# Altium schematic symbol library HW_ADHERENT_NFC_R1_L1.SchLib: 515 symbols (part 6 of 8)
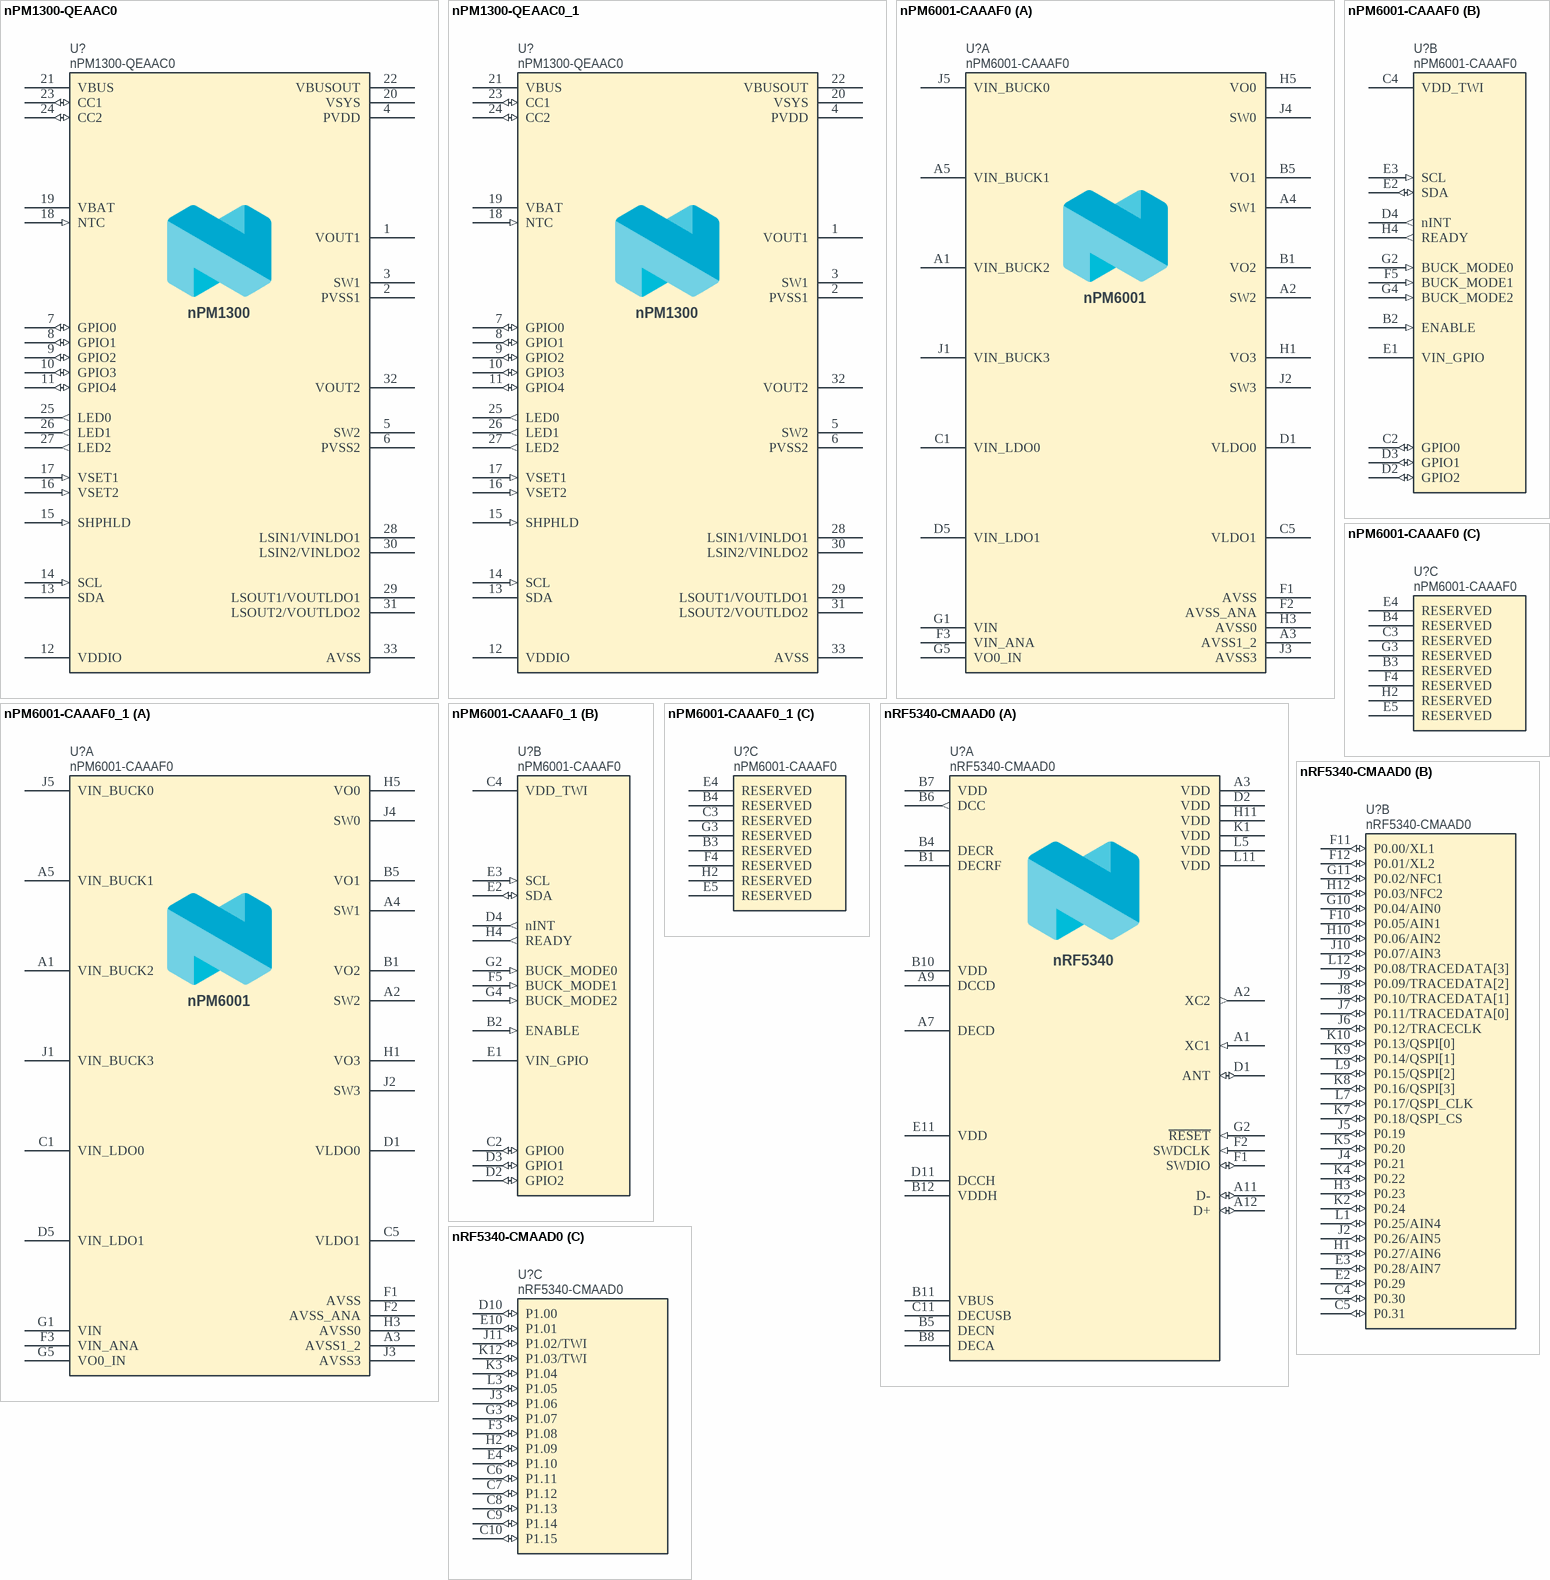
[diagram p20: symbols nPM1300-QEAAC0 to nRF5340-CMAAD0]

## nPM1300-QEAAC0
designator U?
Li-Ion/Li-Polymer USB-C battery charger with high efficiency buck regulators, LDOs or load switches, LED drivers, TWI and VBUSOUT; Manufacturer: Nordic Semiconductor; Part number NEMS: 102000306; Component Status: Active; Pad Count: 33; Note: Production version; Artikkelnr Noca: N.A.; Part Number: nPM1300-QEAAC0; Component Class: Nordic_Devices; Author: eisk; Manufacturer Part Number: nPM1300-QEAAC0; ComponentLink1URL: N.A.; ComponentLink1Description: Datasheet; ComponentLink2URL: N.A.; ComponentLink2Description: Supplier link; HelpURL: N.A.; LatestRevisionDate: 2023-08-16; Published: 2023-08-16; Footprint Doc: QFN-32; Value: nPM1300-QEAAC0; Supplier 1: Nordic Semiconductor; Supplier Part Number 1: nPM1300-QEAAC0; Supplier 2: N.A.; Supplier Part Number 2: N.A.; Part number IPS: N.A.; Part number Norautron: N.A.; PartId: 102000306
footprint Nordic_QFN50P500X500X90-33N
pins: 1 VOUT1 (power), 2 PVSS1 (power), 3 SW1 (power), 4 PVDD (power), 5 SW2 (power), 6 PVSS2 (power), 7 GPIO0 (io), 8 GPIO1 (io), 9 GPIO2 (io), 10 GPIO3 (io), 11 GPIO4 (io), 12 VDDIO (power), 13 SDA (oc), 14 SCL (in), 15 SHPHLD (in), 16 VSET2 (in), 17 VSET1 (in), 18 NTC (in), 19 VBAT, 20 VSYS (power), 21 VBUS (power), 22 VBUSOUT (power), 23 CC1 (io), 24 CC2 (io), 25 LED0 (out), 26 LED1 (out), 27 LED2 (out), 28 LSIN1/VINLDO1 (power), 29 LSOUT1/VOUTLDO1 (power), 30 LSIN2/VINLDO2 (power), 31 LSOUT2/VOUTLDO2 (power), 32 VOUT2 (power), 33 AVSS (power)
text: nPM1300

## nPM1300-QEAAC0_1
designator U?, comment nPM1300-QEAAC0
Li-Ion/Li-Polymer USB-C battery charger with high efficiency buck regulators, LDOs or load switches, LED drivers, TWI and VBUSOUT; Manufacturer: Nordic Semiconductor; Part number NEMS: 102000306; Component Status: Active; Pad Count: 33; Note: Production version; Artikkelnr Noca: N.A.; Part Number: nPM1300-QEAAC0; Component Class: Nordic_Devices; Author: eisk; Manufacturer Part Number: nPM1300-QEAAC0; ComponentLink1URL: N.A.; ComponentLink1Description: Datasheet; ComponentLink2URL: N.A.; ComponentLink2Description: Supplier link; HelpURL: N.A.; LatestRevisionDate: 2023-08-16; Published: 2023-08-16; Footprint Doc: QFN-32; Value: nPM1300-QEAAC0; Supplier 1: Nordic Semiconductor; Supplier Part Number 1: nPM1300-QEAAC0; Supplier 2: N.A.; Supplier Part Number 2: N.A.; Part number IPS: N.A.; Part number Norautron: N.A.; PartId: 102000306
footprint Nordic_QFN50P500X500X90-33N
pins: 1 VOUT1 (power), 2 PVSS1 (power), 3 SW1 (power), 4 PVDD (power), 5 SW2 (power), 6 PVSS2 (power), 7 GPIO0 (io), 8 GPIO1 (io), 9 GPIO2 (io), 10 GPIO3 (io), 11 GPIO4 (io), 12 VDDIO (power), 13 SDA (oc), 14 SCL (in), 15 SHPHLD (in), 16 VSET2 (in), 17 VSET1 (in), 18 NTC (in), 19 VBAT, 20 VSYS (power), 21 VBUS (power), 22 VBUSOUT (power), 23 CC1 (io), 24 CC2 (io), 25 LED0 (out), 26 LED1 (out), 27 LED2 (out), 28 LSIN1/VINLDO1 (power), 29 LSOUT1/VOUTLDO1 (power), 30 LSIN2/VINLDO2 (power), 31 LSOUT2/VOUTLDO2 (power), 32 VOUT2 (power), 33 AVSS (power)
text: nPM1300

## nPM6001-CAAAF0
designator U?
Low-power and high efficiency PMIC; Manufacturer: Nordic Semiconductor; Part number NEMS: 102000358; Component Status: Active; Pad Count: 45; Note: N.A.; Part Number: nPM6001-CAAAF0; Component Class: Nordic_Devices; Author: getr; Manufacturer Part Number: nPM6001-CAAAF0; ComponentLink1URL: N.A.; ComponentLink1Description: Datasheet; ComponentLink2URL: N.A.; ComponentLink2Description: Supplier link; HelpURL: N.A.; LatestRevisionDate: 2024-08-09; Published: 2024-08-09; Footprint Doc: WLCSP-45; Value: nPM6001-CAAAF0; Supplier 1: Nordic Semiconductor; Supplier Part Number 1: nPM6001-CAAAF0; Supplier 2: N.A.; Supplier Part Number 2: N.A.; Artikkelnr Noca: N.A.; Part number IPS: N.A.; Part number Norautron: N.A.; PartId: 102000358
footprint BGA45C40P5X9_217X364X49
part A pins: A1 VIN_BUCK2 (power), A2 SW2 (power), A3 AVSS1_2 (power), A4 SW1 (power), A5 VIN_BUCK1 (power), B1 VO2 (power), B5 VO1 (power), C1 VIN_LDO0 (power), C5 VLDO1 (power), D1 VLDO0 (power), D5 VIN_LDO1 (power), F1 AVSS (power), F2 AVSS_ANA (power), F3 VIN_ANA (power), G1 VIN (power), G5 VO0_IN (power), H1 VO3 (power), H3 AVSS0 (power), H5 VO0 (power), J1 VIN_BUCK3 (power), J2 SW3 (power), J3 AVSS3 (power), J4 SW0 (power), J5 VIN_BUCK0 (power)
part B pins: B2 ENABLE (in), C2 GPIO0 (io), C4 VDD_TWI (power), D2 GPIO2 (io), D3 GPIO1 (io), D4 nINT (out), E1 VIN_GPIO (power), E2 SDA (io), E3 SCL (in), F5 BUCK_MODE1 (in), G2 BUCK_MODE0 (in), G4 BUCK_MODE2 (in), H4 READY (out)
part C pins: B3 RESERVED, B4 RESERVED, C3 RESERVED, E4 RESERVED, E5 RESERVED, F4 RESERVED, G3 RESERVED, H2 RESERVED
part A text: nPM6001

## nPM6001-CAAAF0_1
designator U?, comment nPM6001-CAAAF0
Low-power and high efficiency PMIC; Manufacturer: Nordic Semiconductor; Part number NEMS: 102000358; Component Status: Active; Pad Count: 45; Note: N.A.; Part Number: nPM6001-CAAAF0; Component Class: Nordic_Devices; Author: getr; Manufacturer Part Number: nPM6001-CAAAF0; ComponentLink1URL: N.A.; ComponentLink1Description: Datasheet; ComponentLink2URL: N.A.; ComponentLink2Description: Supplier link; HelpURL: N.A.; LatestRevisionDate: 2024-08-09; Published: 2024-08-09; Footprint Doc: WLCSP-45; Value: nPM6001-CAAAF0; Supplier 1: Nordic Semiconductor; Supplier Part Number 1: nPM6001-CAAAF0; Supplier 2: N.A.; Supplier Part Number 2: N.A.; Artikkelnr Noca: N.A.; Part number IPS: N.A.; Part number Norautron: N.A.; PartId: 102000358
footprint BGA45C40P5X9_217X364X49
part A pins: A1 VIN_BUCK2 (power), A2 SW2 (power), A3 AVSS1_2 (power), A4 SW1 (power), A5 VIN_BUCK1 (power), B1 VO2 (power), B5 VO1 (power), C1 VIN_LDO0 (power), C5 VLDO1 (power), D1 VLDO0 (power), D5 VIN_LDO1 (power), F1 AVSS (power), F2 AVSS_ANA (power), F3 VIN_ANA (power), G1 VIN (power), G5 VO0_IN (power), H1 VO3 (power), H3 AVSS0 (power), H5 VO0 (power), J1 VIN_BUCK3 (power), J2 SW3 (power), J3 AVSS3 (power), J4 SW0 (power), J5 VIN_BUCK0 (power)
part B pins: B2 ENABLE (in), C2 GPIO0 (io), C4 VDD_TWI (power), D2 GPIO2 (io), D3 GPIO1 (io), D4 nINT (out), E1 VIN_GPIO (power), E2 SDA (io), E3 SCL (in), F5 BUCK_MODE1 (in), G2 BUCK_MODE0 (in), G4 BUCK_MODE2 (in), H4 READY (out)
part C pins: B3 RESERVED, B4 RESERVED, C3 RESERVED, E4 RESERVED, E5 RESERVED, F4 RESERVED, G3 RESERVED, H2 RESERVED
part A text: nPM6001

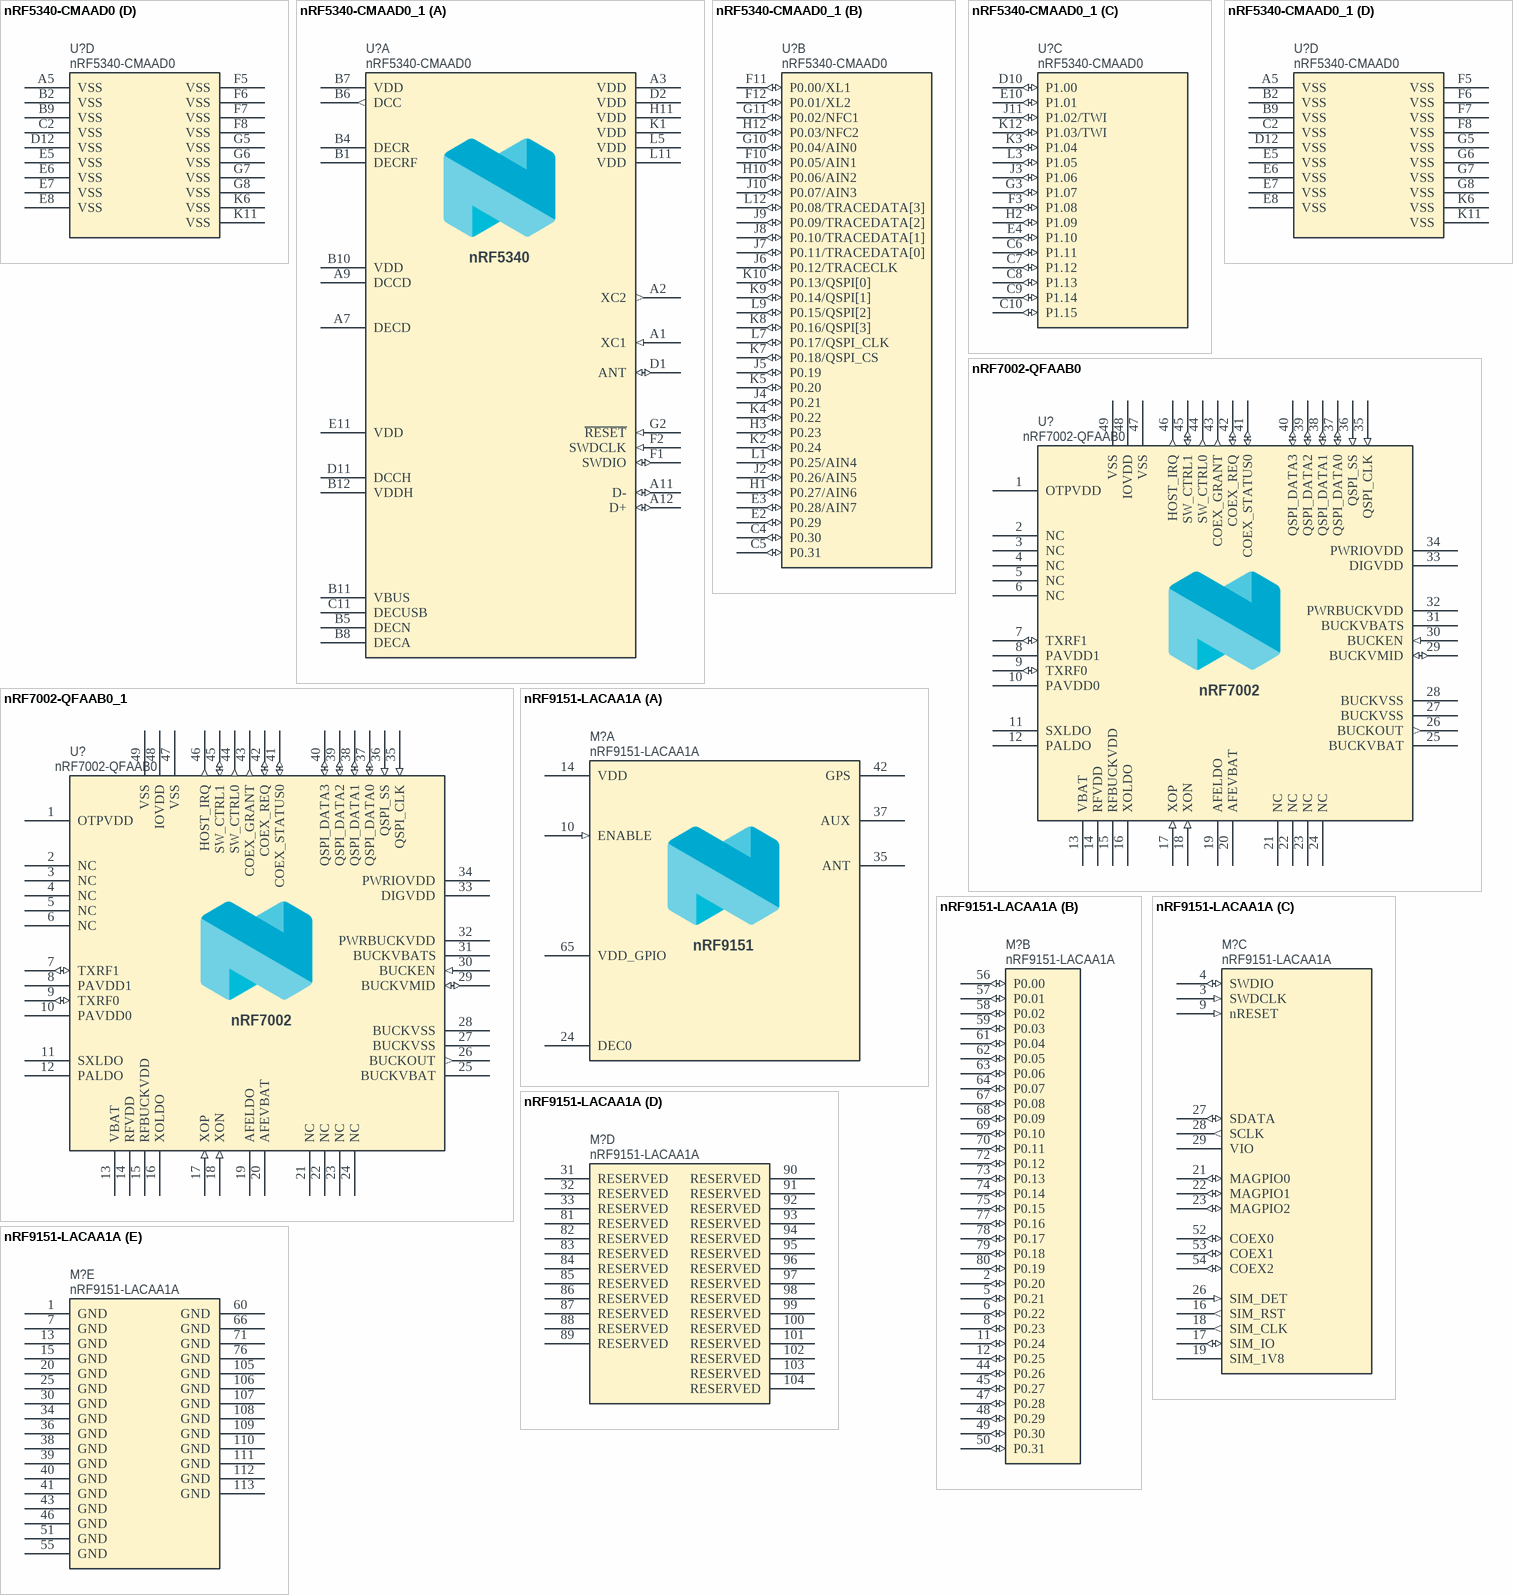
[diagram p10: symbols nRF5340-CMAAD0 to nRF9151-LACAA1A]

## nRF5340-CMAAD0
designator U?
Multi-protocol Bluetooth Low Energy, IEEE 802.15.4, ANT and 2.4GHz proprietary system-on-chip; Manufacturer: Nordic Semiconductor; Part number NEMS: 102000337; Pad Count: 95; Note: N.A.; Component Status: Active; Part Number: nRF5340-CMAAD0; Footprint Doc: WLCSP-95; Value: nRF5340-CMAAD0; Component Class: Nordic_Devices; Author: rubr; PartId: 102000337; Manufacturer Part Number: nRF5340-CMAAD0; ComponentLink1URL: N.A.; ComponentLink1Description: Datasheet; ComponentLink2URL: N.A.; ComponentLink2Description: Supplier link; HelpURL: N.A.; LatestRevisionDate: 2024-06-07; Published: 2024-06-07; Supplier 1: Nordic Semiconductor; Supplier Part Number 1: nRF5340-CMAAD0; Supplier 2: N.A.; Supplier Part Number 2: N.A.; Artikkelnr Noca: N.A.; Part number IPS: N.A.; Part number Norautron: N.A.
footprint BGA95C35P12X11_439X399X49
part A pins: A1 XC1 (in), A2 XC2 (out), A3 VDD (power), A7 DECD (power), A9 DCCD (power), A11 D- (io), A12 D+ (io), B1 DECRF (power), B4 DECR (power), B5 DECN (power), B6 DCC (out), B7 VDD (power), B8 DECA (power), B10 VDD (power), B11 VBUS (power), B12 VDDH (power), C11 DECUSB (power), D1 ANT (io), D2 VDD (power), D11 DCCH (power), E11 VDD (power), F1 SWDIO (io), F2 SWDCLK (in), G2 ~{RESET} (in), H11 VDD (power), K1 VDD (power), L5 VDD (power), L11 VDD (power)
part B pins: C4 P0.30 (io), C5 P0.31 (io), E2 P0.29 (io), E3 P0.28/AIN7 (io), F10 P0.05/AIN1 (io), F11 P0.00/XL1 (io), F12 P0.01/XL2 (io), G10 P0.04/AIN0 (io), G11 P0.02/NFC1 (io), H1 P0.27/AIN6 (io), H3 P0.23 (io), H10 P0.06/AIN2 (io), H12 P0.03/NFC2 (io), J2 P0.26/AIN5 (io), J4 P0.21 (io), J5 P0.19 (io), J6 P0.12/TRACECLK (io), J7 P0.11/TRACEDATA[0] (io), J8 P0.10/TRACEDATA[1] (io), J9 P0.09/TRACEDATA[2] (io), J10 P0.07/AIN3 (io), K2 P0.24 (io), K4 P0.22 (io), K5 P0.20 (io), K7 P0.18/QSPI_CS (io), K8 P0.16/QSPI[3] (io), K9 P0.14/QSPI[1] (io), K10 P0.13/QSPI[0] (io), L1 P0.25/AIN4 (io), L7 P0.17/QSPI_CLK (io), L9 P0.15/QSPI[2] (io), L12 P0.08/TRACEDATA[3] (io)
part C pins: C6 P1.11 (io), C7 P1.12 (io), C8 P1.13 (io), C9 P1.14 (io), C10 P1.15 (io), D10 P1.00 (io), E4 P1.10 (io), E10 P1.01 (io), F3 P1.08 (io), G3 P1.07 (io), H2 P1.09 (io), J3 P1.06 (io), J11 P1.02/TWI (io), K3 P1.04 (io), K12 P1.03/TWI (io), L3 P1.05 (io)
part D pins: A5 VSS (power), B2 VSS (power), B9 VSS (power), C2 VSS (power), D12 VSS (power), E5 VSS (power), E6 VSS (power), E7 VSS (power), E8 VSS (power), F5 VSS (power), F6 VSS (power), F7 VSS (power), F8 VSS (power), G5 VSS (power), G6 VSS (power), G7 VSS (power), G8 VSS (power), K6 VSS (power), K11 VSS (power)
part A text: nRF5340

## nRF5340-CMAAD0_1
designator U?, comment nRF5340-CMAAD0
Multi-protocol Bluetooth Low Energy, IEEE 802.15.4, ANT and 2.4GHz proprietary system-on-chip; Manufacturer: Nordic Semiconductor; Part number NEMS: 102000337; Pad Count: 95; Note: N.A.; Component Status: Active; Part Number: nRF5340-CMAAD0; Footprint Doc: WLCSP-95; Value: nRF5340-CMAAD0; Component Class: Nordic_Devices; Author: rubr; PartId: 102000337; Manufacturer Part Number: nRF5340-CMAAD0; ComponentLink1URL: N.A.; ComponentLink1Description: Datasheet; ComponentLink2URL: N.A.; ComponentLink2Description: Supplier link; HelpURL: N.A.; LatestRevisionDate: 2024-06-07; Published: 2024-06-07; Supplier 1: Nordic Semiconductor; Supplier Part Number 1: nRF5340-CMAAD0; Supplier 2: N.A.; Supplier Part Number 2: N.A.; Artikkelnr Noca: N.A.; Part number IPS: N.A.; Part number Norautron: N.A.
footprint BGA95C35P12X11_439X399X49
part A pins: A1 XC1 (in), A2 XC2 (out), A3 VDD (power), A7 DECD (power), A9 DCCD (power), A11 D- (io), A12 D+ (io), B1 DECRF (power), B4 DECR (power), B5 DECN (power), B6 DCC (out), B7 VDD (power), B8 DECA (power), B10 VDD (power), B11 VBUS (power), B12 VDDH (power), C11 DECUSB (power), D1 ANT (io), D2 VDD (power), D11 DCCH (power), E11 VDD (power), F1 SWDIO (io), F2 SWDCLK (in), G2 ~{RESET} (in), H11 VDD (power), K1 VDD (power), L5 VDD (power), L11 VDD (power)
part B pins: C4 P0.30 (io), C5 P0.31 (io), E2 P0.29 (io), E3 P0.28/AIN7 (io), F10 P0.05/AIN1 (io), F11 P0.00/XL1 (io), F12 P0.01/XL2 (io), G10 P0.04/AIN0 (io), G11 P0.02/NFC1 (io), H1 P0.27/AIN6 (io), H3 P0.23 (io), H10 P0.06/AIN2 (io), H12 P0.03/NFC2 (io), J2 P0.26/AIN5 (io), J4 P0.21 (io), J5 P0.19 (io), J6 P0.12/TRACECLK (io), J7 P0.11/TRACEDATA[0] (io), J8 P0.10/TRACEDATA[1] (io), J9 P0.09/TRACEDATA[2] (io), J10 P0.07/AIN3 (io), K2 P0.24 (io), K4 P0.22 (io), K5 P0.20 (io), K7 P0.18/QSPI_CS (io), K8 P0.16/QSPI[3] (io), K9 P0.14/QSPI[1] (io), K10 P0.13/QSPI[0] (io), L1 P0.25/AIN4 (io), L7 P0.17/QSPI_CLK (io), L9 P0.15/QSPI[2] (io), L12 P0.08/TRACEDATA[3] (io)
part C pins: C6 P1.11 (io), C7 P1.12 (io), C8 P1.13 (io), C9 P1.14 (io), C10 P1.15 (io), D10 P1.00 (io), E4 P1.10 (io), E10 P1.01 (io), F3 P1.08 (io), G3 P1.07 (io), H2 P1.09 (io), J3 P1.06 (io), J11 P1.02/TWI (io), K3 P1.04 (io), K12 P1.03/TWI (io), L3 P1.05 (io)
part D pins: A5 VSS (power), B2 VSS (power), B9 VSS (power), C2 VSS (power), D12 VSS (power), E5 VSS (power), E6 VSS (power), E7 VSS (power), E8 VSS (power), F5 VSS (power), F6 VSS (power), F7 VSS (power), F8 VSS (power), G5 VSS (power), G6 VSS (power), G7 VSS (power), G8 VSS (power), K6 VSS (power), K11 VSS (power)
part A text: nRF5340

## nRF7002-QFAAB0
designator U?
Wi-fi Dual Band Companion chip; Manufacturer: Nordic Semiconductor; Part number NEMS: 102000276; Pad Count: 49; Note: N.A.; Component Status: Active; Part Number: nRF7002-QFAAB0; Component Class: Nordic_Devices; Author: hany; Manufacturer Part Number: nRF7002-QFAAB0; ComponentLink1URL: N.A.; ComponentLink1Description: Datasheet; ComponentLink2URL: N.A.; ComponentLink2Description: Supplier link; HelpURL: N.A.; Footprint Doc: QFN-48; LatestRevisionDate: 2023-01-11; Published: 2023-01-11; Value: nRF7002-QFAA; Supplier 1: Nordic Semiconductor; Supplier Part Number 1: nRF7002-QFAAB0; Supplier 2: N.A.; Supplier Part Number 2: N.A.; Artikkelnr Noca: N.A.; Part number IPS: N.A.; Part number Norautron: N.A.; PartId: 102000276
footprint QFN40P600X600X60-48N
pins: 1 OTPVDD (power) "OTP write mode supply,  (2.25-2.75V)", 2 NC, 3 NC, 4 NC, 5 NC, 6 NC, 7 TXRF1 (io) "RF INOUT ,", 8 PAVDD1 (power) "Supply ,  (3.3V)", 9 TXRF0 (io) "RF INOUT ,", 10 PAVDD0 (power) "Supply ,  (3.3V)", 11 SXLDO (power) "Supply ,  (1.2V)", 12 PALDO (power) "Supply ,  (3.3V)", 13 VBAT (power) "Supply ,  (2.5-4.5V)", 14 RFVDD (power) "Supply ,  (1.8V)", 15 RFBUCKVDD (power) "Supply ,  (1.5V)", 16 XOLDO (power) "Supply ,  (1.2V)", 17 XOP (in) "40MHz crystal ,", 18 XON (in) "40MHz crystal ,", 19 AFELDO (power) "Supply ,  (1.8V)", 20 AFEVBAT (power) "Supply ,  (2.5-4.5V)", 21 NC, 22 NC, 23 NC, 24 NC, 25 BUCKVBAT (power) "Supply ,  (2.5-4.5V)", 26 BUCKOUT (out) "DCDC output", 27 BUCKVSS (power) "DCDC GND", 28 BUCKVSS (power) "DCDC GND", 29 BUCKVMID (io) "Voltage reference decoupling pin ,", 30 BUCKEN (in) "PWR IP enable pin ,", 31 BUCKVBATS (power) "Supply ,  (2.5-4.5V)", 32 PWRBUCKVDD (power) "Supply ,  (1.5V)", 33 DIGVDD (power) "Supply ,  (1.1V)", 34 PWRIOVDD (power) "internal IO supply, may be used for OTP read,  (1.8-3.3 V)", 35 QSPI_CLK (in) "QSPI Clock", 36 QSPI_SS (in) "QSPI  Slave select", 37 QSPI_DATA0 (io) "QSPI data 0/MOSI", 38 QSPI_DATA1 (io) "QSPI data 1/MISO", 39 QSPI_DATA2 (io) "QSPI data 2/NC", 40 QSPI_DATA3 (io) "QSPI data 3/NC", 41 COEX_STATUS0 (io) "Coex interface, DIGMON1 (O) / GPIO1 (O)", 42 COEX_REQ (io) "Coex interface, DIGMON0 (O) / GPIO0 (O)", 43 COEX_GRANT (out) "Coex interface, GPIO2 (O)", 44 SW_CTRL0 (out) "external switch control , GPIO3 (O)", 45 SW_CTRL1 (io) "external switch control , GPIO4 (O) / BT_COEX_STATUS1 (I)", 46 HOST_IRQ (out) "Host processor interrupt request , GPIO5 (O)", 47 VSS "Connect to GND", 48 IOVDD (power) "IO supply ,  (1.8-3.3 V)", 49 VSS (power) "Center Pad"
text: nRF7002

## nRF7002-QFAAB0_1
designator U?, comment nRF7002-QFAAB0
Wi-fi Dual Band Companion chip; Manufacturer: Nordic Semiconductor; Part number NEMS: 102000276; Pad Count: 49; Note: N.A.; Component Status: Active; Part Number: nRF7002-QFAAB0; Component Class: Nordic_Devices; Author: hany; Manufacturer Part Number: nRF7002-QFAAB0; ComponentLink1URL: N.A.; ComponentLink1Description: Datasheet; ComponentLink2URL: N.A.; ComponentLink2Description: Supplier link; HelpURL: N.A.; Footprint Doc: QFN-48; LatestRevisionDate: 2023-01-11; Published: 2023-01-11; Value: nRF7002-QFAA; Supplier 1: Nordic Semiconductor; Supplier Part Number 1: nRF7002-QFAAB0; Supplier 2: N.A.; Supplier Part Number 2: N.A.; Artikkelnr Noca: N.A.; Part number IPS: N.A.; Part number Norautron: N.A.; PartId: 102000276
footprint QFN40P600X600X60-48N
pins: 1 OTPVDD (power) "OTP write mode supply,  (2.25-2.75V)", 2 NC, 3 NC, 4 NC, 5 NC, 6 NC, 7 TXRF1 (io) "RF INOUT ,", 8 PAVDD1 (power) "Supply ,  (3.3V)", 9 TXRF0 (io) "RF INOUT ,", 10 PAVDD0 (power) "Supply ,  (3.3V)", 11 SXLDO (power) "Supply ,  (1.2V)", 12 PALDO (power) "Supply ,  (3.3V)", 13 VBAT (power) "Supply ,  (2.5-4.5V)", 14 RFVDD (power) "Supply ,  (1.8V)", 15 RFBUCKVDD (power) "Supply ,  (1.5V)", 16 XOLDO (power) "Supply ,  (1.2V)", 17 XOP (in) "40MHz crystal ,", 18 XON (in) "40MHz crystal ,", 19 AFELDO (power) "Supply ,  (1.8V)", 20 AFEVBAT (power) "Supply ,  (2.5-4.5V)", 21 NC, 22 NC, 23 NC, 24 NC, 25 BUCKVBAT (power) "Supply ,  (2.5-4.5V)", 26 BUCKOUT (out) "DCDC output", 27 BUCKVSS (power) "DCDC GND", 28 BUCKVSS (power) "DCDC GND", 29 BUCKVMID (io) "Voltage reference decoupling pin ,", 30 BUCKEN (in) "PWR IP enable pin ,", 31 BUCKVBATS (power) "Supply ,  (2.5-4.5V)", 32 PWRBUCKVDD (power) "Supply ,  (1.5V)", 33 DIGVDD (power) "Supply ,  (1.1V)", 34 PWRIOVDD (power) "internal IO supply, may be used for OTP read,  (1.8-3.3 V)", 35 QSPI_CLK (in) "QSPI Clock", 36 QSPI_SS (in) "QSPI  Slave select", 37 QSPI_DATA0 (io) "QSPI data 0/MOSI", 38 QSPI_DATA1 (io) "QSPI data 1/MISO", 39 QSPI_DATA2 (io) "QSPI data 2/NC", 40 QSPI_DATA3 (io) "QSPI data 3/NC", 41 COEX_STATUS0 (io) "Coex interface, DIGMON1 (O) / GPIO1 (O)", 42 COEX_REQ (io) "Coex interface, DIGMON0 (O) / GPIO0 (O)", 43 COEX_GRANT (out) "Coex interface, GPIO2 (O)", 44 SW_CTRL0 (out) "external switch control , GPIO3 (O)", 45 SW_CTRL1 (io) "external switch control , GPIO4 (O) / BT_COEX_STATUS1 (I)", 46 HOST_IRQ (out) "Host processor interrupt request , GPIO5 (O)", 47 VSS "Connect to GND", 48 IOVDD (power) "IO supply ,  (1.8-3.3 V)", 49 VSS (power) "Center Pad"
text: nRF7002

## nRF9151-LACAA1A
designator M?
Low power System-in-Package with integrated LTE-M/NB-IoT modem and GPS; Manufacturer: Nordic Semiconductor; Part number NEMS: 102000407; Component Status: Active; Pad Count: 113; Note: N.A.; Part Number: nRF9151-LACAA1A; PartId: 102000407; Component Class: Nordic_Devices; Author: getr; Manufacturer Part Number: nRF9151-LACAA1A; ComponentLink1URL: N.A.; ComponentLink1Description: Datasheet; ComponentLink2URL: N.A.; ComponentLink2Description: Supplier link; HelpURL: N.A.; LatestRevisionDate: 2025-04-09; Published: 2025-04-09; Footprint Doc: LGA-113; Value: nRF9151-LACAA1A; Supplier 1: Nordic Semiconductor; Supplier Part Number 1: nRF9151-LACAA1A; Supplier 2: N.A.; Supplier Part Number 2: N.A.; Artikkelnr Noca: N.A.; Part number IPS: N.A.; Part number Norautron: N.A.
footprint LGA50P1210X1110X130-113N
part A pins: 10 ENABLE (in), 14 VDD (power), 24 DEC0, 35 ANT, 37 AUX, 42 GPS, 65 VDD_GPIO (power)
part B pins: 2 P0.20 (io), 5 P0.21 (io), 6 P0.22 (io), 8 P0.23 (io), 11 P0.24 (io), 12 P0.25 (io), 44 P0.26 (io), 45 P0.27 (io), 47 P0.28 (io), 48 P0.29 (io), 49 P0.30 (io), 50 P0.31 (io), 56 P0.00 (io), 57 P0.01 (io), 58 P0.02 (io), 59 P0.03 (io), 61 P0.04 (io), 62 P0.05 (io), 63 P0.06 (io), 64 P0.07 (io), 67 P0.08 (io), 68 P0.09 (io), 69 P0.10 (io), 70 P0.11 (io), 72 P0.12 (io), 73 P0.13 (io), 74 P0.14 (io), 75 P0.15 (io), 77 P0.16 (io), 78 P0.17 (io), 79 P0.18 (io), 80 P0.19 (io)
part C pins: 3 SWDCLK (in), 4 SWDIO (io), 9 nRESET (in), 16 SIM_RST (out), 17 SIM_IO (io), 18 SIM_CLK (out), 19 SIM_1V8 (power), 21 MAGPIO0 (io), 22 MAGPIO1 (io), 23 MAGPIO2 (io), 26 SIM_DET (in), 27 SDATA (io), 28 SCLK (out), 29 VIO, 52 COEX0 (io), 53 COEX1 (io), 54 COEX2 (io)
part D pins: 31 RESERVED, 32 RESERVED, 33 RESERVED, 81 RESERVED, 82 RESERVED, 83 RESERVED, 84 RESERVED, 85 RESERVED, 86 RESERVED, 87 RESERVED, 88 RESERVED, 89 RESERVED, 90 RESERVED, 91 RESERVED, 92 RESERVED, 93 RESERVED, 94 RESERVED, 95 RESERVED, 96 RESERVED, 97 RESERVED, 98 RESERVED, 99 RESERVED, 100 RESERVED, 101 RESERVED, 102 RESERVED, 103 RESERVED, 104 RESERVED
part E pins: 1 GND, 7 GND, 13 GND, 15 GND, 20 GND, 25 GND, 30 GND, 34 GND, 36 GND, 38 GND, 39 GND, 40 GND, 41 GND, 43 GND, 46 GND, 51 GND, 55 GND, 60 GND, 66 GND, 71 GND, 76 GND, 105 GND, 106 GND, 107 GND, 108 GND, 109 GND, 110 GND, 111 GND, 112 GND, 113 GND
part A text: nRF9151

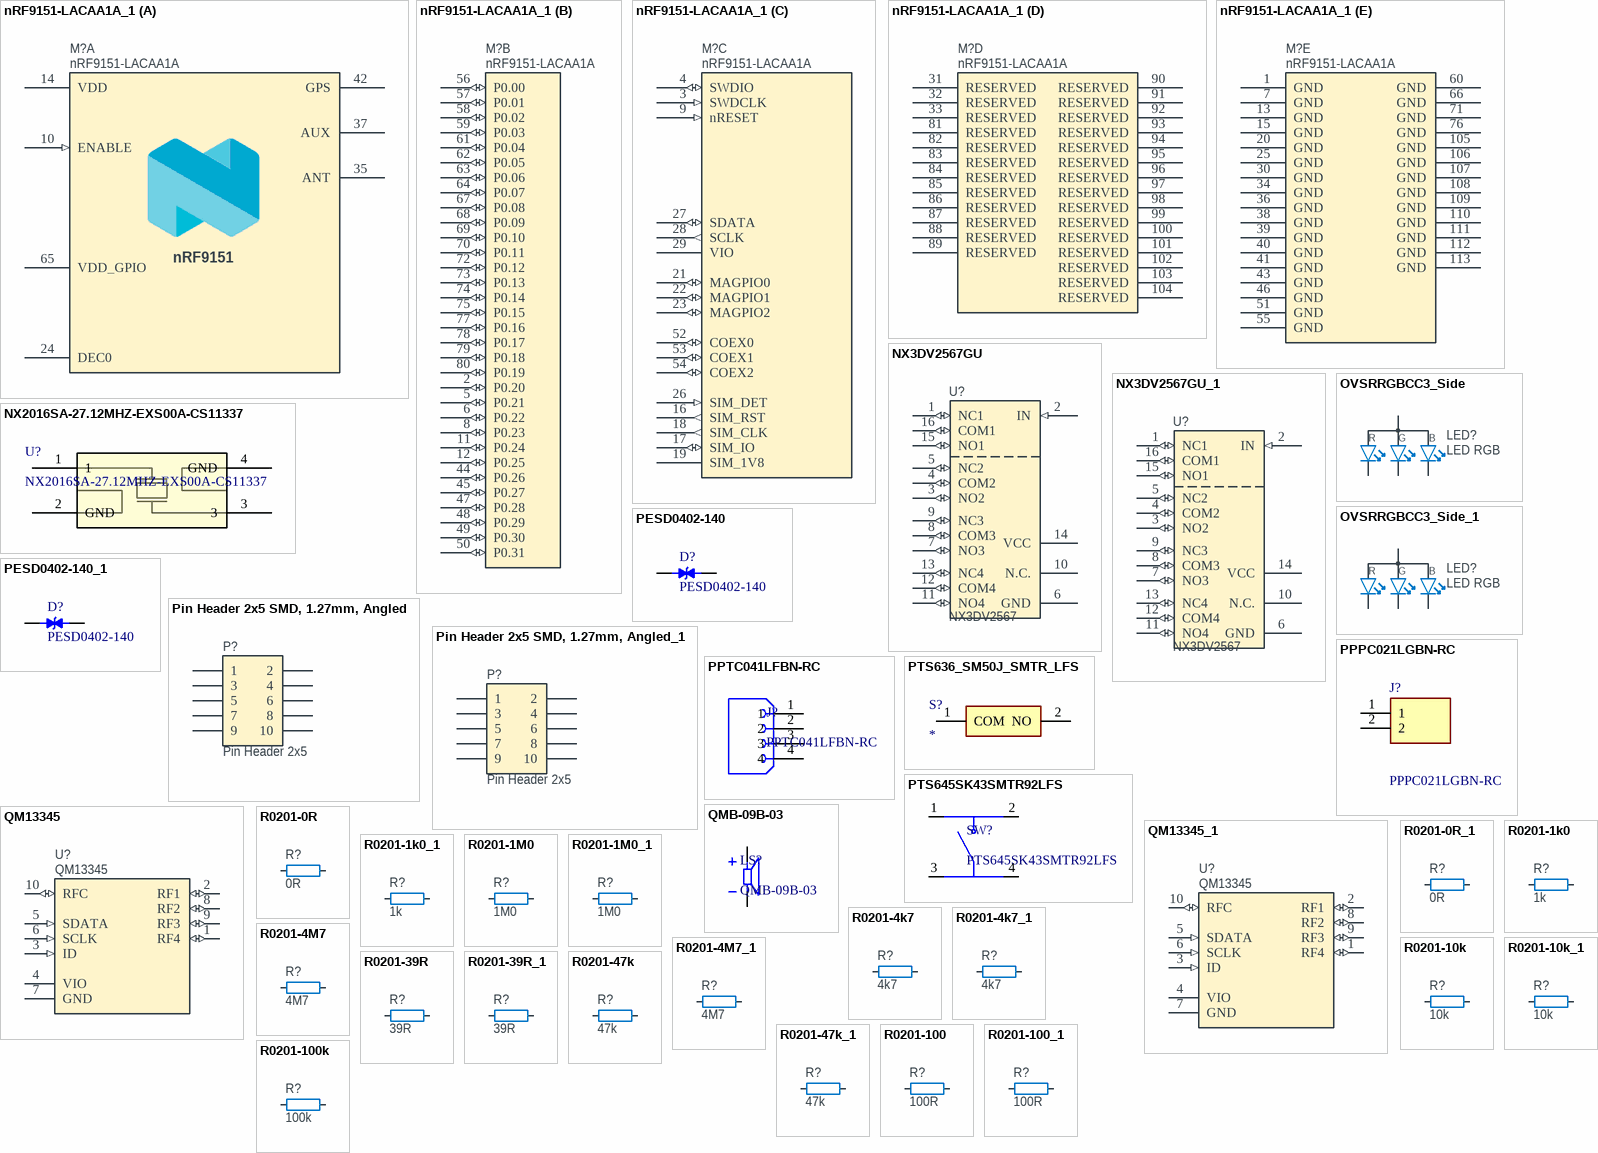
[diagram p11: symbols nRF9151-LACAA1A_1 to R0201-100k]

## nRF9151-LACAA1A_1
designator M?, comment nRF9151-LACAA1A
Low power System-in-Package with integrated LTE-M/NB-IoT modem and GPS; Manufacturer: Nordic Semiconductor; Part number NEMS: 102000407; Component Status: Active; Pad Count: 113; Note: N.A.; Part Number: nRF9151-LACAA1A; PartId: 102000407; Component Class: Nordic_Devices; Author: getr; Manufacturer Part Number: nRF9151-LACAA1A; ComponentLink1URL: N.A.; ComponentLink1Description: Datasheet; ComponentLink2URL: N.A.; ComponentLink2Description: Supplier link; HelpURL: N.A.; LatestRevisionDate: 2025-04-09; Published: 2025-04-09; Footprint Doc: LGA-113; Value: nRF9151-LACAA1A; Supplier 1: Nordic Semiconductor; Supplier Part Number 1: nRF9151-LACAA1A; Supplier 2: N.A.; Supplier Part Number 2: N.A.; Artikkelnr Noca: N.A.; Part number IPS: N.A.; Part number Norautron: N.A.
footprint LGA50P1210X1110X130-113N
part A pins: 10 ENABLE (in), 14 VDD (power), 24 DEC0, 35 ANT, 37 AUX, 42 GPS, 65 VDD_GPIO (power)
part B pins: 2 P0.20 (io), 5 P0.21 (io), 6 P0.22 (io), 8 P0.23 (io), 11 P0.24 (io), 12 P0.25 (io), 44 P0.26 (io), 45 P0.27 (io), 47 P0.28 (io), 48 P0.29 (io), 49 P0.30 (io), 50 P0.31 (io), 56 P0.00 (io), 57 P0.01 (io), 58 P0.02 (io), 59 P0.03 (io), 61 P0.04 (io), 62 P0.05 (io), 63 P0.06 (io), 64 P0.07 (io), 67 P0.08 (io), 68 P0.09 (io), 69 P0.10 (io), 70 P0.11 (io), 72 P0.12 (io), 73 P0.13 (io), 74 P0.14 (io), 75 P0.15 (io), 77 P0.16 (io), 78 P0.17 (io), 79 P0.18 (io), 80 P0.19 (io)
part C pins: 3 SWDCLK (in), 4 SWDIO (io), 9 nRESET (in), 16 SIM_RST (out), 17 SIM_IO (io), 18 SIM_CLK (out), 19 SIM_1V8 (power), 21 MAGPIO0 (io), 22 MAGPIO1 (io), 23 MAGPIO2 (io), 26 SIM_DET (in), 27 SDATA (io), 28 SCLK (out), 29 VIO, 52 COEX0 (io), 53 COEX1 (io), 54 COEX2 (io)
part D pins: 31 RESERVED, 32 RESERVED, 33 RESERVED, 81 RESERVED, 82 RESERVED, 83 RESERVED, 84 RESERVED, 85 RESERVED, 86 RESERVED, 87 RESERVED, 88 RESERVED, 89 RESERVED, 90 RESERVED, 91 RESERVED, 92 RESERVED, 93 RESERVED, 94 RESERVED, 95 RESERVED, 96 RESERVED, 97 RESERVED, 98 RESERVED, 99 RESERVED, 100 RESERVED, 101 RESERVED, 102 RESERVED, 103 RESERVED, 104 RESERVED
part E pins: 1 GND, 7 GND, 13 GND, 15 GND, 20 GND, 25 GND, 30 GND, 34 GND, 36 GND, 38 GND, 39 GND, 40 GND, 41 GND, 43 GND, 46 GND, 51 GND, 55 GND, 60 GND, 66 GND, 71 GND, 76 GND, 105 GND, 106 GND, 107 GND, 108 GND, 109 GND, 110 GND, 111 GND, 112 GND, 113 GND
part A text: nRF9151

## NX3DV2567GU
designator U?, comment NX3DV2567
Low-ohmic four-pole double-throw analog switch; Part Number: NX3DV2567GU; Manufacturer: NXP Semiconductors; Part number IPS: 00000007816; Part number NEMS: 101900290; Note: N.A.; Artikkelnr Noca: 15079317; Pad Count: 16; Component Status: Active; Manufacturer Part Number: NX3DV2567GU; Footprint Doc: XQFN-16; LatestRevisionDate: 2015-02-17; Published: 2015-02-17; Value: NX3DV2567; ComponentLink1URL: N.A.; ComponentLink1Description: Datasheet; ComponentLink2URL: N.A.; ComponentLink2Description: Supplier link; HelpURL: http://www.nxp.com/documents/data_sheet/NX3DV2567.pdf; Supplier 1: Digi-Key; Supplier Part Number 1: 568-5206-1-ND; Supplier 2: Mouser; Supplier Part Number 2: 771-NX3DV2567GU115; PartId: 101900290; Component Class: Misc_ICs; Author: rsk; Part number Norautron: N.A.
footprint XQFN40P180X260X50-16N
pins: 1 NC1 (io), 2 IN (in), 3 NO2 (io), 4 COM2 (io), 5 NC2 (io), 6 GND (power), 7 NO3 (io), 8 COM3 (io), 9 NC3 (io), 10 N.C., 11 NO4 (io), 12 COM4 (io), 13 NC4 (io), 14 VCC (power), 15 NO1 (io), 16 COM1 (io)
3 alternate drawings of the same symbol

## NX3DV2567GU_1
designator U?, comment NX3DV2567
Low-ohmic four-pole double-throw analog switch; Part Number: NX3DV2567GU; Manufacturer: NXP Semiconductors; Part number IPS: 00000007816; Part number NEMS: 101900290; Note: N.A.; Artikkelnr Noca: 15079317; Pad Count: 16; Component Status: Active; Manufacturer Part Number: NX3DV2567GU; Footprint Doc: XQFN-16; LatestRevisionDate: 2015-02-17; Published: 2015-02-17; Value: NX3DV2567; ComponentLink1URL: N.A.; ComponentLink1Description: Datasheet; ComponentLink2URL: N.A.; ComponentLink2Description: Supplier link; HelpURL: http://www.nxp.com/documents/data_sheet/NX3DV2567.pdf; Supplier 1: Digi-Key; Supplier Part Number 1: 568-5206-1-ND; Supplier 2: Mouser; Supplier Part Number 2: 771-NX3DV2567GU115; PartId: 101900290; Component Class: Misc_ICs; Author: rsk; Part number Norautron: N.A.
footprint XQFN40P180X260X50-16N
pins: 1 NC1 (io), 2 IN (in), 3 NO2 (io), 4 COM2 (io), 5 NC2 (io), 6 GND (power), 7 NO3 (io), 8 COM3 (io), 9 NC3 (io), 10 N.C., 11 NO4 (io), 12 COM4 (io), 13 NC4 (io), 14 VCC (power), 15 NO1 (io), 16 COM1 (io)
3 alternate drawings of the same symbol

## NX2016SA-27.12MHZ-EXS00A-CS11337
designator U?
Description; Manufacturer_Name: NDK; Copyright: Copyright (C) 2025 Ultra Librarian. All rights reserved.; Manufacturer_Part_Number: NX2016SA-27.12MHZ-EXS00A-CS11337; RefDes: RefDes; Type: Type
footprint SMD04_NX2016S_NDK
pins: 1, 2 GND, 3, 4 GND

## OVSRRGBCC3_Side
designator LED?, comment LED RGB
Optek, Side mounted RGB 1204 SMD LED; Part Number: OVSRRGBCC3_Side; Manufacturer Part Number: OVSRRGBCC3; Part number NEMS: 101400026; Pad Count: 4; Artikkelnr Noca: N.A.; Component Status: Active; PartId: 101400026; Component Class: Optoelectronics; Author: rsk; Manufacturer: Optek; ComponentLink1URL: http://www.ttelectronics.com/sites/default/files/download-files/Datasheet_OVSRRGBCC3%20Issue%20G.pdf; ComponentLink1Description: Datasheet; ComponentLink2URL: https://www.digikey.no/product-detail/en/tt-electronics-optek-technology/OVSRRGBCC3TM/365-1981-1-ND/5147364; ComponentLink2Description: Supplier link; HelpURL: http://no.farnell.com/optek-technology/ovsrrgbcc3tm/led-dome-rgb-smd/dp/2428398?CMP=GRHB-OCTOPART; Footprint Doc: 1204; LatestRevisionDate: 2018-07-23; Published: 2009-09-11; Value: LED RGB; Note: Side mounted; Supplier 1: Digi-Key; Supplier Part Number 1: 365-1410-1-ND; Supplier 2: Farnell; Supplier Part Number 2: 167-8707; Part number IPS: N.A.; Part number Norautron: N.A.
footprint OVSRRGBCC3_Side
pins: 1 C_RED, 2 C_GREEN, 3 C_BLUE, 4 A
text: R; G; B

## OVSRRGBCC3_Side_1
designator LED?, comment LED RGB
Optek, Side mounted RGB 1204 SMD LED; Part Number: OVSRRGBCC3_Side; Manufacturer Part Number: OVSRRGBCC3; Part number NEMS: 101400026; Pad Count: 4; Artikkelnr Noca: N.A.; Component Status: Active; PartId: 101400026; Component Class: Optoelectronics; Author: rsk; Manufacturer: Optek; ComponentLink1URL: http://www.ttelectronics.com/sites/default/files/download-files/Datasheet_OVSRRGBCC3%20Issue%20G.pdf; ComponentLink1Description: Datasheet; ComponentLink2URL: https://www.digikey.no/product-detail/en/tt-electronics-optek-technology/OVSRRGBCC3TM/365-1981-1-ND/5147364; ComponentLink2Description: Supplier link; HelpURL: http://no.farnell.com/optek-technology/ovsrrgbcc3tm/led-dome-rgb-smd/dp/2428398?CMP=GRHB-OCTOPART; Footprint Doc: 1204; LatestRevisionDate: 2018-07-23; Published: 2009-09-11; Value: LED RGB; Note: Side mounted; Supplier 1: Digi-Key; Supplier Part Number 1: 365-1410-1-ND; Supplier 2: Farnell; Supplier Part Number 2: 167-8707; Part number IPS: N.A.; Part number Norautron: N.A.
footprint OVSRRGBCC3_Side
pins: 1 C_RED, 2 C_GREEN, 3 C_BLUE, 4 A
text: R; G; B

## PESD0402-140
designator D?
40V Clamp - Ipp Tvs Diode Surface Mount 0402; MF: Littelfuse Inc.; SnapEDA_Link: https://www.snapeda.com/parts/PESD0402-140/Littelfuse/view-part/?ref=snap; Package: 0402 Littelfuse Inc.; Value: *; MP: PESD0402-140; Check_prices: https://www.snapeda.com/parts/PESD0402-140/Littelfuse/view-part/?ref=eda
footprint DIO_PESD0402-140
pins: 1, 2

## PESD0402-140_1
designator D?, comment PESD0402-140
40V Clamp - Ipp Tvs Diode Surface Mount 0402; MF: Littelfuse Inc.; SnapEDA_Link: https://www.snapeda.com/parts/PESD0402-140/Littelfuse/view-part/?ref=snap; Package: 0402 Littelfuse Inc.; Value: *; MP: PESD0402-140; Check_prices: https://www.snapeda.com/parts/PESD0402-140/Littelfuse/view-part/?ref=eda
footprint DIO_PESD0402-140
pins: 1, 2

## Pin Header 2x5 SMD, 1.27mm, Angled
designator P?, comment Pin Header 2x5
Pin Header 2x5, 1.27mm (50mil); Part Number: Pin Header 2x5 SMD, 1.27mm, Angled; Manufacturer: WCON; Manufacturer Part Number: 1325B-1205S0Z080CR04; Part number NEMS: 100500257; Note: (Replaced 1325B-1205S0Z080CR02); Artikkelnr Noca: N.A.; Pad Count: 10; Component Status: Active; System: Connector; LatestRevisionDate: 2024-02-02; Published: 2014-01-22; Value: Pin Header 2x5; Footprint Doc: HDR_2x5-SMD-1.27mm-ANG; Part number IPS: N.A.; ComponentLink1URL: N.A.; ComponentLink1Description: Datasheet; ComponentLink2URL: N.A.; ComponentLink2Description: Supplier link; HelpURL: \\hizz\pro\app9717\Datasheet\connectors\W-CON\1325B-12XXXXZXXXCXXX.pdf; Supplier 1: Cabcon; Supplier Part Number 1: 1325B-1205S0Z080CR04; Supplier 2: N.A.; Supplier Part Number 2: N.A.; Author: rsk; Component Class: Connectors; PartId: 100500257; Part number Norautron: N.A.
footprint HDR_2x5-SMD-1.27mm-ANG
pins: 1, 2, 3, 4, 5, 6, 7, 8, 9, 10

## Pin Header 2x5 SMD, 1.27mm, Angled_1
designator P?, comment Pin Header 2x5
Pin Header 2x5, 1.27mm (50mil); Part Number: Pin Header 2x5 SMD, 1.27mm, Angled; Manufacturer: WCON; Manufacturer Part Number: 1325B-1205S0Z080CR04; Part number NEMS: 100500257; Note: (Replaced 1325B-1205S0Z080CR02); Artikkelnr Noca: N.A.; Pad Count: 10; Component Status: Active; System: Connector; LatestRevisionDate: 2024-02-02; Published: 2014-01-22; Value: Pin Header 2x5; Footprint Doc: HDR_2x5-SMD-1.27mm-ANG; Part number IPS: N.A.; ComponentLink1URL: N.A.; ComponentLink1Description: Datasheet; ComponentLink2URL: N.A.; ComponentLink2Description: Supplier link; HelpURL: \\hizz\pro\app9717\Datasheet\connectors\W-CON\1325B-12XXXXZXXXCXXX.pdf; Supplier 1: Cabcon; Supplier Part Number 1: 1325B-1205S0Z080CR04; Supplier 2: N.A.; Supplier Part Number 2: N.A.; Author: rsk; Component Class: Connectors; PartId: 100500257; Part number Norautron: N.A.
footprint HDR_2x5-SMD-1.27mm-ANG
pins: 1, 2, 3, 4, 5, 6, 7, 8, 9, 10

## PPPC021LGBN-RC
designator J?
2 Position Header Connector 0.100" (2.54mm) Through Hole, Right Angle Gold; Manufacturer_Name: Sullins; Geometry.Height: 2.74mm; Manufacturer_Part_Number: PPPC021LGBN-RC; Mouser Part Number: *; Mouser Price/Stock: *; Arrow Part Number: *; Arrow Price/Stock: *; Datasheet Link: http://www.sullinscorp.com/drawings/78_P(N)PxCxx1LGBN-RC,_10493-G.pdf; LCSC: C5441035
footprint RHDRRA2W60P0X254_1X2_558X850X274P
pins: 1, 2

## PPTC041LFBN-RC
designator J?
4 Position Header Connector 0.100 (2.54mm) Through Hole Tin; MF: Sullins Connector; SnapEDA_Link: https://www.snapeda.com/parts/PPTC041LFBN-RC/Sullins/view-part/?ref=snap; Package: None; Value: *; MP: PPTC041LFBN-RC; Check_prices: https://www.snapeda.com/parts/PPTC041LFBN-RC/Sullins/view-part/?ref=eda
footprint SULLINS_PPTC041LFBN-RC
pins: 1, 2, 3, 4

## PTS636_SM50J_SMTR_LFS
designator S?
Switch; Manufacturer_Name: C & K COMPONENTS; Manufacturer_Part_Number: PTS636 SM50J SMTR LFS; Datasheet Link: https://www.ckswitches.com/media/2779/pts636.pdf; Height: 5mm; Mouser Part Number: 611-PTS636SM50JSMTRL; Mouser Price/Stock: https://www.mouser.co.uk/ProductDetail/CK/PTS636-SM50J-SMTR-LFS?qs=vLWxofP3U2yjyUEoo0QLqQ%3D%3D; Arrow Part Number: PTS636 SM50J SMTR LFS; Arrow Price/Stock: https://www.arrow.com/en/products/pts636-sm50j-smtr-lfs/ck?region=nac
footprint PTS636SM50JSMTRLFS
pins: 1 COM, 2 NO

## PTS645SK43SMTR92LFS
designator SW?
Switch;Tactile;SPST-NO;OFF-MOM;Top Actuator;260 Grams;4.3mm;.05A;12VDC;Gull Wing | C&K PTS645SK43SMTR92 LFS; SnapEDA_Link: https://www.snapeda.com/parts/PTS645SK43SMTR92%20LFS/C%2526K/view-part/?ref=snap; Package: NON-STANDARD-4 C&amp;K; Value: *; MF: C&K; MP: PTS645SK43SMTR92 LFS; Check_prices: https://www.snapeda.com/parts/PTS645SK43SMTR92%20LFS/C%2526K/view-part/?ref=eda; LCSC: C221871
footprint SW_PTS645SK43SMTR92LFS
pins: 1, 2, 3, 4

## QM13345
designator U?
SP4T RF Switch with RFFE Interface; Manufacturer: Qorvo; Part number NEMS: 101900679; Pad Count: 10; Note: N.A.; Component Status: Active; Part Number: QM13345; Component Class: Misc_ICs; Author: rubr; Manufacturer Part Number: QM13345; ComponentLink1URL: \\hizz\pro\app9717\Datasheet\integated circuits\qorvo\QM13345 Datasheet.pdf; ComponentLink1Description: Datasheet; ComponentLink2URL: N.A.; ComponentLink2Description: Supplier link; HelpURL: N.A.; Footprint Doc: UFQFN-10; LatestRevisionDate: 2021-12-10; Published: 2021-12-10; Value: QM13345; Supplier 1: N.A.; Supplier Part Number 1: N.A.; Supplier 2: N.A.; Supplier Part Number 2: N.A.; Artikkelnr Noca: N.A.; Part number IPS: N.A.; Part number Norautron: N.A.; PartId: 101900679
footprint PQFN40P110X150X50-10N
pins: 1 RF4 (io), 2 RF1 (io), 3 ID (in), 4 VIO (power), 5 SDATA (in), 6 SCLK (in), 7 GND (power), 8 RF2 (io), 9 RF3 (io), 10 RFC (io)

## QM13345_1
designator U?, comment QM13345
SP4T RF Switch with RFFE Interface; Manufacturer: Qorvo; Part number NEMS: 101900679; Pad Count: 10; Note: N.A.; Component Status: Active; Part Number: QM13345; Component Class: Misc_ICs; Author: rubr; Manufacturer Part Number: QM13345; ComponentLink1URL: \\hizz\pro\app9717\Datasheet\integated circuits\qorvo\QM13345 Datasheet.pdf; ComponentLink1Description: Datasheet; ComponentLink2URL: N.A.; ComponentLink2Description: Supplier link; HelpURL: N.A.; Footprint Doc: UFQFN-10; LatestRevisionDate: 2021-12-10; Published: 2021-12-10; Value: QM13345; Supplier 1: N.A.; Supplier Part Number 1: N.A.; Supplier 2: N.A.; Supplier Part Number 2: N.A.; Artikkelnr Noca: N.A.; Part number IPS: N.A.; Part number Norautron: N.A.; PartId: 101900679
footprint PQFN40P110X150X50-10N
pins: 1 RF4 (io), 2 RF1 (io), 3 ID (in), 4 VIO (power), 5 SDATA (in), 6 SCLK (in), 7 GND (power), 8 RF2 (io), 9 RF3 (io), 10 RFC (io)

## QMB-09B-03
designator LS?
BUZZER MAGNETIC 2V~5V 9mm TH; MP: QMB-09B-03; Availability: In Stock
footprint CUI_CMI-1295-0585T
pins: N, P

## R0201-0R
designator R?, comment 0R
Resistor, ±5%, 0.05W; Part Number: R0201-0R; Manufacturer: N.A.; Part number IPS: 00000003245; Part number NEMS: 100100001; Pad Count: 2; Note: Chip Res 5%; Component Status: Active; Footprint Doc: 0201; Value: 0R; Component Class: Resistors; Author: rsk; PartId: 100100001; Manufacturer Part Number: N.A.; ComponentLink1URL: N.A.; ComponentLink1Description: Datasheet; ComponentLink2URL: N.A.; ComponentLink2Description: Supplier link; HelpURL: N.A.; LatestRevisionDate: 2017-11-09; Published: 2014-11-13; Supplier 1: N.A.; Supplier Part Number 1: N.A.; Supplier 2: N.A.; Supplier Part Number 2: N.A.; Artikkelnr Noca: N.A.; Part number Norautron: N.A.
footprint RESC0603X03L_C
pins: 1, 2

## R0201-0R_1
designator R?, comment 0R
Resistor, ±5%, 0.05W; Part Number: R0201-0R; Manufacturer: N.A.; Part number IPS: 00000003245; Part number NEMS: 100100001; Pad Count: 2; Note: Chip Res 5%; Component Status: Active; Footprint Doc: 0201; Value: 0R; Component Class: Resistors; Author: rsk; PartId: 100100001; Manufacturer Part Number: N.A.; ComponentLink1URL: N.A.; ComponentLink1Description: Datasheet; ComponentLink2URL: N.A.; ComponentLink2Description: Supplier link; HelpURL: N.A.; LatestRevisionDate: 2017-11-09; Published: 2014-11-13; Supplier 1: N.A.; Supplier Part Number 1: N.A.; Supplier 2: N.A.; Supplier Part Number 2: N.A.; Artikkelnr Noca: N.A.; Part number Norautron: N.A.
footprint RESC0603X03L_C
pins: 1, 2

## R0201-1k0
designator R?, comment 1k
Resistor, ±1%, 0.05W; Part Number: R0201-1k0; Manufacturer: N.A.; Part number IPS: 00000005786; Part number NEMS: 100100043; Note: Chip Res 1%; Pad Count: 2; Component Status: Active; Manufacturer Part Number: N.A.; ComponentLink1URL: N.A.; ComponentLink1Description: Datasheet; ComponentLink2URL: N.A.; ComponentLink2Description: Supplier link; HelpURL: N.A.; Footprint Doc: 0201; LatestRevisionDate: 2014-11-13; Published: 2014-11-13; Value: 1k; Artikkelnr Noca: N.A.; Supplier 1: N.A.; Supplier Part Number 1: N.A.; Supplier 2: N.A.; Supplier Part Number 2: N.A.; Component Class: Resistors; PartId: 100100043; Author: rsk; Part number Norautron: N.A.
footprint RESC0603X03L_C
pins: 1, 2

## R0201-1k0_1
designator R?, comment 1k
Resistor, ±1%, 0.05W; Part Number: R0201-1k0; Manufacturer: N.A.; Part number IPS: 00000005786; Part number NEMS: 100100043; Note: Chip Res 1%; Pad Count: 2; Component Status: Active; Manufacturer Part Number: N.A.; ComponentLink1URL: N.A.; ComponentLink1Description: Datasheet; ComponentLink2URL: N.A.; ComponentLink2Description: Supplier link; HelpURL: N.A.; Footprint Doc: 0201; LatestRevisionDate: 2014-11-13; Published: 2014-11-13; Value: 1k; Artikkelnr Noca: N.A.; Supplier 1: N.A.; Supplier Part Number 1: N.A.; Supplier 2: N.A.; Supplier Part Number 2: N.A.; Component Class: Resistors; PartId: 100100043; Author: rsk; Part number Norautron: N.A.
footprint RESC0603X03L_C
pins: 1, 2

## R0201-1M0
designator R?, comment 1M0
Resistor, ±1%, 0.05W; Part Number: R0201-1M0; Manufacturer: N.A.; Part number IPS: 00000001418; Part number Norautron: 26107108; Part number NEMS: 100100093; Note: Chip Res 1%; Pad Count: 2; Component Status: Active; Manufacturer Part Number: N.A.; ComponentLink1URL: N.A.; ComponentLink1Description: Datasheet; ComponentLink2URL: N.A.; ComponentLink2Description: Supplier link; HelpURL: N.A.; Footprint Doc: 0201; LatestRevisionDate: 2014-11-13; Published: 2014-11-13; Value: 1M0; Supplier 1: N.A.; Supplier Part Number 1: N.A.; Supplier 2: N.A.; Supplier Part Number 2: N.A.; Artikkelnr Noca: N.A.; PartId: 100100093; Component Class: Resistors; Author: rsk
footprint RESC0603X03L_C
pins: 1, 2

## R0201-1M0_1
designator R?, comment 1M0
Resistor, ±1%, 0.05W; Part Number: R0201-1M0; Manufacturer: N.A.; Part number IPS: 00000001418; Part number Norautron: 26107108; Part number NEMS: 100100093; Note: Chip Res 1%; Pad Count: 2; Component Status: Active; Manufacturer Part Number: N.A.; ComponentLink1URL: N.A.; ComponentLink1Description: Datasheet; ComponentLink2URL: N.A.; ComponentLink2Description: Supplier link; HelpURL: N.A.; Footprint Doc: 0201; LatestRevisionDate: 2014-11-13; Published: 2014-11-13; Value: 1M0; Supplier 1: N.A.; Supplier Part Number 1: N.A.; Supplier 2: N.A.; Supplier Part Number 2: N.A.; Artikkelnr Noca: N.A.; PartId: 100100093; Component Class: Resistors; Author: rsk
footprint RESC0603X03L_C
pins: 1, 2

## R0201-4k7
designator R?, comment 4k7
Resistor, ±1%, 0.05W; Part Number: R0201-4k7; Manufacturer: N.A.; Part number IPS: 00000001706; Part number NEMS: 100100061; Note: Chip Res 1%; Pad Count: 2; Component Status: Active; Manufacturer Part Number: N.A.; Footprint Doc: 0201; LatestRevisionDate: 2014-11-13; Published: 2014-11-13; Value: 4k7; Artikkelnr Noca: N.A.; ComponentLink1URL: N.A.; ComponentLink1Description: Datasheet; ComponentLink2URL: N.A.; ComponentLink2Description: Supplier link; HelpURL: N.A.; Supplier 1: N.A.; Supplier Part Number 1: N.A.; Supplier 2: N.A.; Supplier Part Number 2: N.A.; Author: rsk; Component Class: Resistors; PartId: 100100061; Part number Norautron: N.A.
footprint RESC0603X03L_C
pins: 1, 2

## R0201-4k7_1
designator R?, comment 4k7
Resistor, ±1%, 0.05W; Part Number: R0201-4k7; Manufacturer: N.A.; Part number IPS: 00000001706; Part number NEMS: 100100061; Note: Chip Res 1%; Pad Count: 2; Component Status: Active; Manufacturer Part Number: N.A.; Footprint Doc: 0201; LatestRevisionDate: 2014-11-13; Published: 2014-11-13; Value: 4k7; Artikkelnr Noca: N.A.; ComponentLink1URL: N.A.; ComponentLink1Description: Datasheet; ComponentLink2URL: N.A.; ComponentLink2Description: Supplier link; HelpURL: N.A.; Supplier 1: N.A.; Supplier Part Number 1: N.A.; Supplier 2: N.A.; Supplier Part Number 2: N.A.; Author: rsk; Component Class: Resistors; PartId: 100100061; Part number Norautron: N.A.
footprint RESC0603X03L_C
pins: 1, 2

## R0201-4M7
designator R?, comment 4M7
Resistor, ±1%, 0.05W; Part Number: R0201-4M7; Manufacturer: N.A.; Part number NEMS: 100100101; Note: Chip Res 1%; Pad Count: 2; Component Status: Active; Manufacturer Part Number: N.A.; ComponentLink1URL: N.A.; ComponentLink1Description: Datasheet; ComponentLink2URL: N.A.; ComponentLink2Description: Supplier link; HelpURL: N.A.; Footprint Doc: 0201; LatestRevisionDate: 2014-11-13; Published: 2014-11-13; Value: 4M7; Artikkelnr Noca: N.A.; Part number IPS: N.A.; Supplier 1: N.A.; Supplier Part Number 1: N.A.; Supplier 2: N.A.; Supplier Part Number 2: N.A.; Component Class: Resistors; PartId: 100100101; Author: rsk; Part number Norautron: N.A.
footprint RESC0603X03L_C
pins: 1, 2

## R0201-4M7_1
designator R?, comment 4M7
Resistor, ±1%, 0.05W; Part Number: R0201-4M7; Manufacturer: N.A.; Part number NEMS: 100100101; Note: Chip Res 1%; Pad Count: 2; Component Status: Active; Manufacturer Part Number: N.A.; ComponentLink1URL: N.A.; ComponentLink1Description: Datasheet; ComponentLink2URL: N.A.; ComponentLink2Description: Supplier link; HelpURL: N.A.; Footprint Doc: 0201; LatestRevisionDate: 2014-11-13; Published: 2014-11-13; Value: 4M7; Artikkelnr Noca: N.A.; Part number IPS: N.A.; Supplier 1: N.A.; Supplier Part Number 1: N.A.; Supplier 2: N.A.; Supplier Part Number 2: N.A.; Component Class: Resistors; PartId: 100100101; Author: rsk; Part number Norautron: N.A.
footprint RESC0603X03L_C
pins: 1, 2

## R0201-10k
designator R?, comment 10k
Resistor, ±1%, 0.05W; Part Number: R0201-10k; Manufacturer: N.A.; Part number IPS: 00000001255; Part number Norautron: 26107101; Part number NEMS: 100100065; Note: Chip Res 1%; Pad Count: 2; Component Status: Active; Manufacturer Part Number: N.A.; ComponentLink1URL: N.A.; ComponentLink1Description: Datasheet; ComponentLink2URL: N.A.; ComponentLink2Description: Supplier link; HelpURL: N.A.; Footprint Doc: 0201; LatestRevisionDate: 2014-11-13; Published: 2014-11-13; Value: 10k; Artikkelnr Noca: N.A.; Supplier 1: N.A.; Supplier Part Number 1: N.A.; Supplier 2: N.A.; Supplier Part Number 2: N.A.; PartId: 100100065; Component Class: Resistors; Author: rsk
footprint RESC0603X03L_C
pins: 1, 2

## R0201-10k_1
designator R?, comment 10k
Resistor, ±1%, 0.05W; Part Number: R0201-10k; Manufacturer: N.A.; Part number IPS: 00000001255; Part number Norautron: 26107101; Part number NEMS: 100100065; Note: Chip Res 1%; Pad Count: 2; Component Status: Active; Manufacturer Part Number: N.A.; ComponentLink1URL: N.A.; ComponentLink1Description: Datasheet; ComponentLink2URL: N.A.; ComponentLink2Description: Supplier link; HelpURL: N.A.; Footprint Doc: 0201; LatestRevisionDate: 2014-11-13; Published: 2014-11-13; Value: 10k; Artikkelnr Noca: N.A.; Supplier 1: N.A.; Supplier Part Number 1: N.A.; Supplier 2: N.A.; Supplier Part Number 2: N.A.; PartId: 100100065; Component Class: Resistors; Author: rsk
footprint RESC0603X03L_C
pins: 1, 2

## R0201-39R
designator R?, comment 39R
Resistor, ±1%, 0.05W; Part Number: R0201-39R; Manufacturer: N.A.; Part number IPS: 00000001704; Part number NEMS: 100100021; Note: Chip Res 1%; Pad Count: 2; Component Status: Active; Manufacturer Part Number: N.A.; LatestRevisionDate: 2014-11-13; Published: 2014-11-13; Value: 39R; Artikkelnr Noca: N.A.; Footprint Doc: 0201; ComponentLink1URL: N.A.; ComponentLink1Description: Datasheet; ComponentLink2URL: N.A.; ComponentLink2Description: Supplier link; HelpURL: N.A.; Supplier 1: N.A.; Supplier Part Number 1: N.A.; Supplier 2: N.A.; Supplier Part Number 2: N.A.; Author: rsk; Component Class: Resistors; PartId: 100100021; Part number Norautron: N.A.
footprint RESC0603X03L_C
pins: 1, 2

## R0201-39R_1
designator R?, comment 39R
Resistor, ±1%, 0.05W; Part Number: R0201-39R; Manufacturer: N.A.; Part number IPS: 00000001704; Part number NEMS: 100100021; Note: Chip Res 1%; Pad Count: 2; Component Status: Active; Manufacturer Part Number: N.A.; LatestRevisionDate: 2014-11-13; Published: 2014-11-13; Value: 39R; Artikkelnr Noca: N.A.; Footprint Doc: 0201; ComponentLink1URL: N.A.; ComponentLink1Description: Datasheet; ComponentLink2URL: N.A.; ComponentLink2Description: Supplier link; HelpURL: N.A.; Supplier 1: N.A.; Supplier Part Number 1: N.A.; Supplier 2: N.A.; Supplier Part Number 2: N.A.; Author: rsk; Component Class: Resistors; PartId: 100100021; Part number Norautron: N.A.
footprint RESC0603X03L_C
pins: 1, 2

## R0201-47k
designator R?, comment 47k
Resistor, ±1%, 0.05W; Part Number: R0201-47k; Manufacturer: N.A.; Part number IPS: 00000001423; Part number NEMS: 100100076; Component Status: Active; Pad Count: 2; Note: Chip Res 1%; PartId: 100100076; Component Class: Resistors; Author: rsk; Manufacturer Part Number: N.A.; ComponentLink1URL: N.A.; ComponentLink1Description: Datasheet; ComponentLink2URL: N.A.; ComponentLink2Description: Supplier link; HelpURL: N.A.; LatestRevisionDate: 2014-11-13; Published: 2014-11-13; Footprint Doc: 0201; Value: 47k; Supplier 1: N.A.; Supplier Part Number 1: N.A.; Supplier 2: N.A.; Supplier Part Number 2: N.A.; Artikkelnr Noca: N.A.; Part number Norautron: N.A.
footprint RESC0603X03L_C
pins: 1, 2

## R0201-47k_1
designator R?, comment 47k
Resistor, ±1%, 0.05W; Part Number: R0201-47k; Manufacturer: N.A.; Part number IPS: 00000001423; Part number NEMS: 100100076; Component Status: Active; Pad Count: 2; Note: Chip Res 1%; PartId: 100100076; Component Class: Resistors; Author: rsk; Manufacturer Part Number: N.A.; ComponentLink1URL: N.A.; ComponentLink1Description: Datasheet; ComponentLink2URL: N.A.; ComponentLink2Description: Supplier link; HelpURL: N.A.; LatestRevisionDate: 2014-11-13; Published: 2014-11-13; Footprint Doc: 0201; Value: 47k; Supplier 1: N.A.; Supplier Part Number 1: N.A.; Supplier 2: N.A.; Supplier Part Number 2: N.A.; Artikkelnr Noca: N.A.; Part number Norautron: N.A.
footprint RESC0603X03L_C
pins: 1, 2

## R0201-100
designator R?, comment 100R
Resistor, ±1%, 0.05W; Part Number: R0201-100; Manufacturer: N.A.; Part number IPS: 00000001794; Part number Norautron: 26107004; Part number NEMS: 100100027; Note: Chip Res 1%; Pad Count: 2; Component Status: Active; Manufacturer Part Number: N.A.; LatestRevisionDate: 2014-11-13; Published: 2014-11-13; Value: 100R; Artikkelnr Noca: N.A.; Footprint Doc: 0201; ComponentLink1URL: N.A.; ComponentLink1Description: Datasheet; ComponentLink2URL: N.A.; ComponentLink2Description: Supplier link; HelpURL: N.A.; Supplier 1: N.A.; Supplier Part Number 1: N.A.; Supplier 2: N.A.; Supplier Part Number 2: N.A.; Author: rsk; Component Class: Resistors; PartId: 100100027
footprint RESC0603X03L_C
pins: 1, 2

## R0201-100_1
designator R?, comment 100R
Resistor, ±1%, 0.05W; Part Number: R0201-100; Manufacturer: N.A.; Part number IPS: 00000001794; Part number Norautron: 26107004; Part number NEMS: 100100027; Note: Chip Res 1%; Pad Count: 2; Component Status: Active; Manufacturer Part Number: N.A.; LatestRevisionDate: 2014-11-13; Published: 2014-11-13; Value: 100R; Artikkelnr Noca: N.A.; Footprint Doc: 0201; ComponentLink1URL: N.A.; ComponentLink1Description: Datasheet; ComponentLink2URL: N.A.; ComponentLink2Description: Supplier link; HelpURL: N.A.; Supplier 1: N.A.; Supplier Part Number 1: N.A.; Supplier 2: N.A.; Supplier Part Number 2: N.A.; Author: rsk; Component Class: Resistors; PartId: 100100027
footprint RESC0603X03L_C
pins: 1, 2

## R0201-100k
designator R?, comment 100k
Resistor, ±1%, 0.05W; Part Number: R0201-100k; Manufacturer: N.A.; Part number IPS: 00000001419; Part number Norautron: 26108487; Part number NEMS: 100100080; Note: Chip Res 1%; Pad Count: 2; Component Status: Active; Manufacturer Part Number: N.A.; ComponentLink1URL: N.A.; ComponentLink1Description: Datasheet; ComponentLink2URL: N.A.; ComponentLink2Description: Supplier link; HelpURL: N.A.; Footprint Doc: 0201; LatestRevisionDate: 2014-11-13; Published: 2014-11-13; Value: 100k; Supplier 1: N.A.; Supplier Part Number 1: N.A.; Supplier 2: N.A.; Supplier Part Number 2: N.A.; Artikkelnr Noca: N.A.; PartId: 100100080; Component Class: Resistors; Author: rsk
footprint RESC0603X03L_C
pins: 1, 2

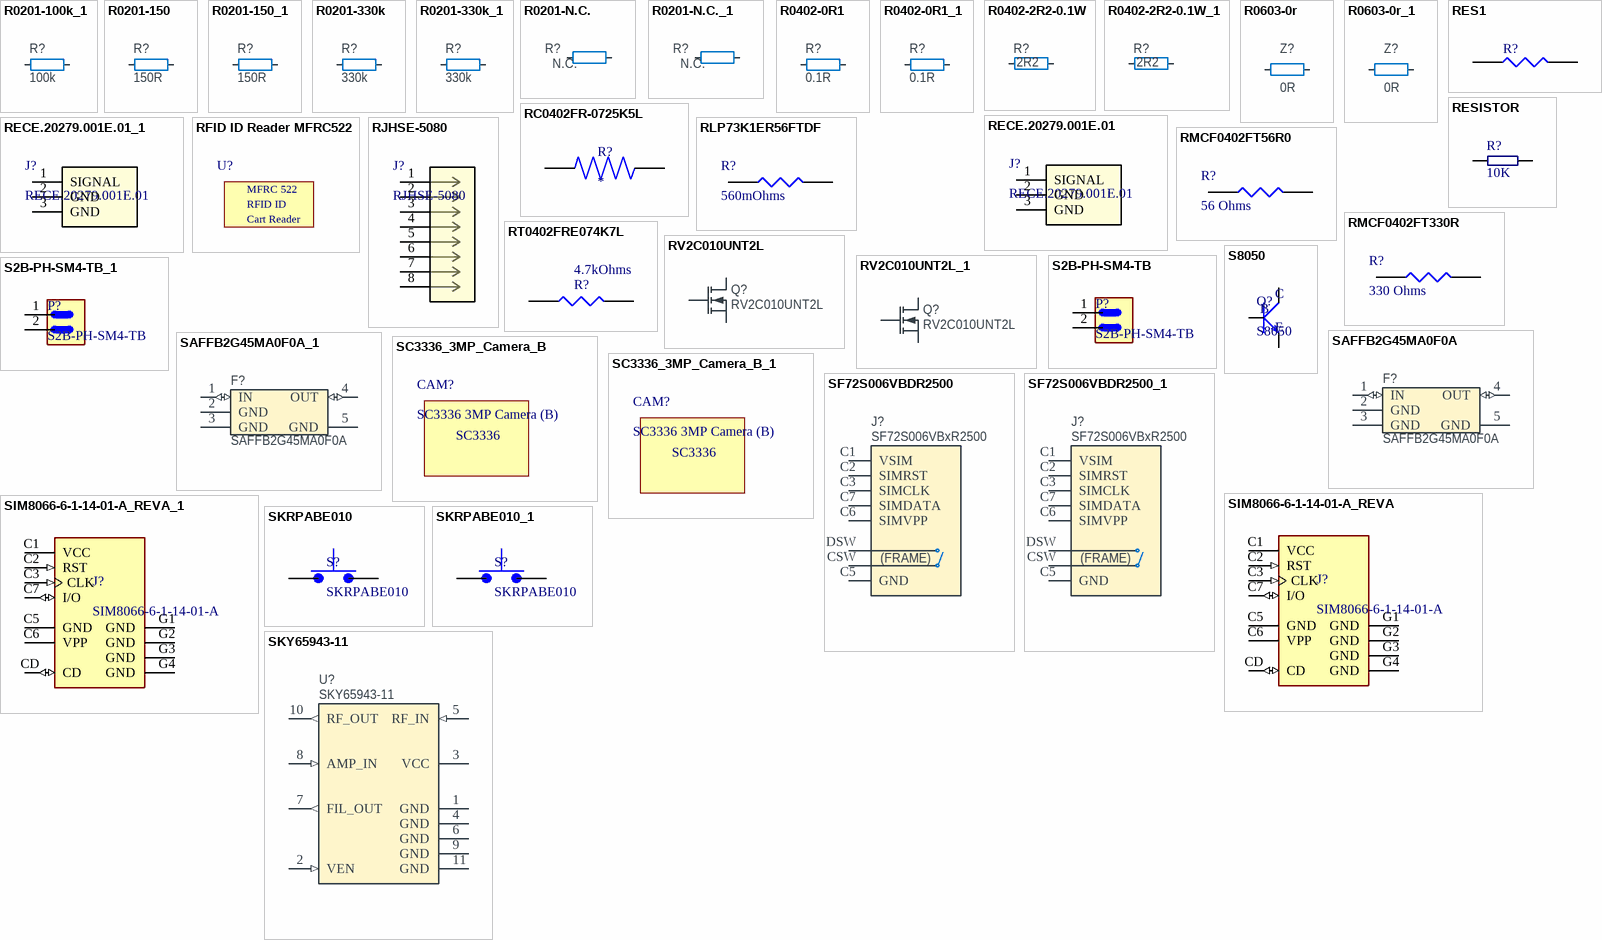
[diagram p12: symbols R0201-100k_1 to SKY65943-11]

## R0201-100k_1
designator R?, comment 100k
Resistor, ±1%, 0.05W; Part Number: R0201-100k; Manufacturer: N.A.; Part number IPS: 00000001419; Part number Norautron: 26108487; Part number NEMS: 100100080; Note: Chip Res 1%; Pad Count: 2; Component Status: Active; Manufacturer Part Number: N.A.; ComponentLink1URL: N.A.; ComponentLink1Description: Datasheet; ComponentLink2URL: N.A.; ComponentLink2Description: Supplier link; HelpURL: N.A.; Footprint Doc: 0201; LatestRevisionDate: 2014-11-13; Published: 2014-11-13; Value: 100k; Supplier 1: N.A.; Supplier Part Number 1: N.A.; Supplier 2: N.A.; Supplier Part Number 2: N.A.; Artikkelnr Noca: N.A.; PartId: 100100080; Component Class: Resistors; Author: rsk
footprint RESC0603X03L_C
pins: 1, 2

## R0201-150
designator R?, comment 150R
Resistor, ±1%, 0.05W; Part Number: R0201-150; Manufacturer: N.A.; Part number IPS: 00000001420; Part number NEMS: 100100029; Note: Chip Res 1%; Pad Count: 2; Component Status: Active; Manufacturer Part Number: N.A.; ComponentLink1URL: N.A.; ComponentLink1Description: Datasheet; ComponentLink2URL: N.A.; ComponentLink2Description: Supplier link; HelpURL: N.A.; Footprint Doc: 0201; LatestRevisionDate: 2014-11-13; Published: 2014-11-13; Value: 150R; Artikkelnr Noca: N.A.; Supplier 1: N.A.; Supplier Part Number 1: N.A.; Supplier 2: N.A.; Supplier Part Number 2: N.A.; PartId: 100100029; Component Class: Resistors; Author: rsk; Part number Norautron: N.A.
footprint RESC0603X03L_C
pins: 1, 2

## R0201-150_1
designator R?, comment 150R
Resistor, ±1%, 0.05W; Part Number: R0201-150; Manufacturer: N.A.; Part number IPS: 00000001420; Part number NEMS: 100100029; Note: Chip Res 1%; Pad Count: 2; Component Status: Active; Manufacturer Part Number: N.A.; ComponentLink1URL: N.A.; ComponentLink1Description: Datasheet; ComponentLink2URL: N.A.; ComponentLink2Description: Supplier link; HelpURL: N.A.; Footprint Doc: 0201; LatestRevisionDate: 2014-11-13; Published: 2014-11-13; Value: 150R; Artikkelnr Noca: N.A.; Supplier 1: N.A.; Supplier Part Number 1: N.A.; Supplier 2: N.A.; Supplier Part Number 2: N.A.; PartId: 100100029; Component Class: Resistors; Author: rsk; Part number Norautron: N.A.
footprint RESC0603X03L_C
pins: 1, 2

## R0201-330k
designator R?, comment 330k
Resistor, ±1%, 0.05W; Part Number: R0201-330k; Manufacturer: N.A.; Part number IPS: 00000001424; Part number NEMS: 100100087; Component Status: Active; Pad Count: 2; Note: Chip Res 1%; PartId: 100100087; Component Class: Resistors; Author: rsk; Manufacturer Part Number: N.A.; ComponentLink1URL: N.A.; ComponentLink1Description: Datasheet; ComponentLink2URL: N.A.; ComponentLink2Description: Supplier link; HelpURL: N.A.; LatestRevisionDate: 2014-11-13; Published: 2014-11-13; Footprint Doc: 0201; Value: 330k; Supplier 1: N.A.; Supplier Part Number 1: N.A.; Supplier 2: N.A.; Supplier Part Number 2: N.A.; Artikkelnr Noca: N.A.; Part number Norautron: N.A.
footprint RESC0603X03L_C
pins: 1, 2